# Altium schematic symbol library Omega.SchLib: 1 symbol
Pins are listed as number, name and electrical type; pins without a type are passive.

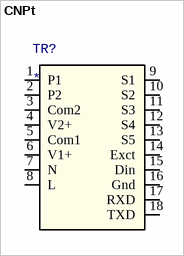
[diagram p0: symbol CNPt]

## CNPt
designator TR?
Thermal Regulator; Manufacturer Part Number 1: *; Manufacturer 1: *
footprint CNPt (Thermal Regulator, 25.4x48x127mm)
pins: 1 P1, 2 P2, 3 Com2, 4 V2+, 5 Com1, 6 V1+, 7 N (power), 8 L (power), 9 S1, 10 S2, 11 S3, 12 S4, 13 S5, 14 Exct, 15 Din, 16 Gnd, 17 RXD, 18 TXD